# EAGLE library part MKE04Z8VWJ4 (library parts)
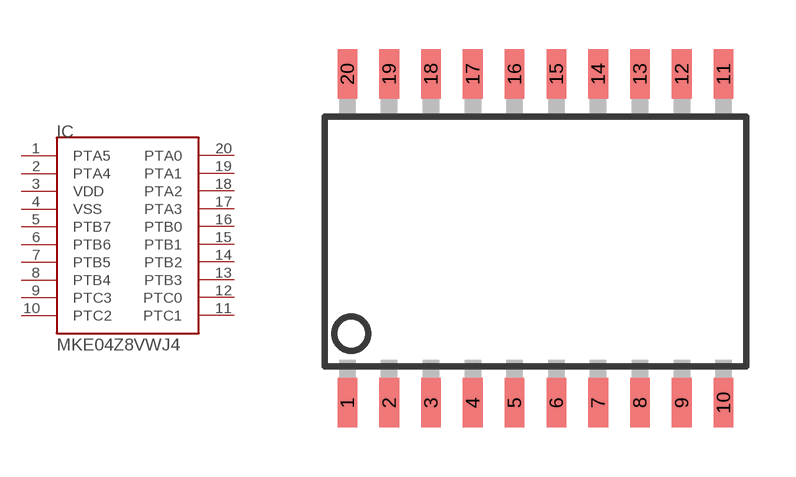
[diagram p1: symbol with the pads of SOIC20S; footprint SOIC20S]

Designator prefix IC

## MKE04Z8VWJ4  [SOIC20S]
1  PTA5
2  PTA4
3  VDD
4  VSS
5  PTB7
6  PTB6
7  PTB5
8  PTB4
9  PTC3
10  PTC2
11  PTC1
12  PTC0
13  PTB3
14  PTB2
15  PTB1
16  PTB0
17  PTA3
18  PTA2
19  PTA1
20  PTA0

## Footprint SOIC20S (pad centres in mm)
Wide Plastic Gull Wing Small Outline Package
smd 0.6 x 1.5: 1 -5.715,-5; 2 -4.445,-5; 3 -3.175,-5; 4 -1.905,-5; 5 -0.635,-5; 6 0.635,-5; 7 1.905,-5; 8 3.175,-5; 9 4.445,-5; 10 5.715,-5; 11 5.715,5; 12 4.445,5; 13 3.175,5; 14 1.905,5; 15 0.635,5; 16 -0.635,5; 17 -1.905,5; 18 -3.175,5; 19 -4.445,5; 20 -5.715,5